# Altium schematic symbol library MotorDrivers.SchLib: 1 symbol
Pins are listed as number, name and electrical type; pins without a type are passive.

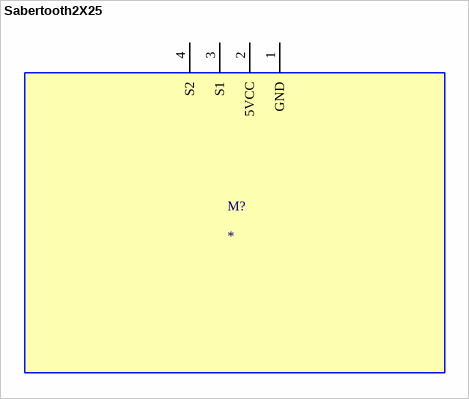
[diagram p0: symbol Sabertooth2X25]

## Sabertooth2X25
designator M?
Dimension Engineering Sabertooth2X25 Motor Driver
footprint Sabertooth2x25 (Dimension Engineering Sabertooth2X25 Motor Driver)
footprint Sabertooth2x25_NC (Dimension Engineering Sabertooth2X25 Motor Driver (No Connection Pads))
pins: 1 GND, 2 5VCC, 3 S1, 4 S2